# Altium schematic symbol library 1N4148W-7-F.SchLib: 1 symbol
Pins are listed as number, name and electrical type; pins without a type are passive.

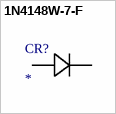
[diagram p0: symbol 1N4148W-7-F]

## 1N4148W-7-F
designator CR?
No Description Available; Mfr_Name: Diodes Inc
footprint SOD123_DIO
pins: 1, 2